# Altium footprint library LQFP64-10x10.PcbLib: 1 footprints
Each footprint in its own frame and in the unit in brackets; x right, y up, seen from the top. Pads: shape width x height; smd on the part's side, far side on the other; paste and mask are expansions set on the pad; w line width, h text height; cw(c..) or ccw(c..) is an arc to the next point about the centre after c.
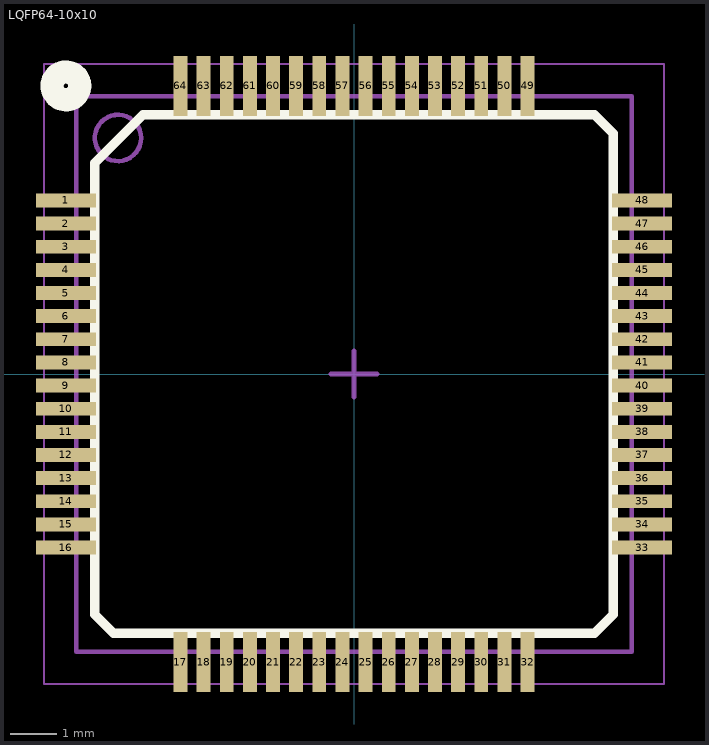
[diagram p0: the footprint, top view; thin cyan lines are the x and y axes]

## LQFP64-10x10 [mm]
pads (64):
  rect 1.3x0.3 smd: 1(-6.225,3.75) 2(-6.225,3.25) 3(-6.225,2.75) 4(-6.225,2.25) 5(-6.225,1.75) 6(-6.225,1.25) 7(-6.225,0.75) 8(-6.225,0.25) 9(-6.225,-0.25) 10(-6.225,-0.75) 11(-6.225,-1.25) 12(-6.225,-1.75) 13(-6.225,-2.25) 14(-6.225,-2.75) 15(-6.225,-3.25) 16(-6.225,-3.75) 33(6.225,-3.75) 34(6.225,-3.25) 35(6.225,-2.75) 36(6.225,-2.25) 37(6.225,-1.75) 38(6.225,-1.25) 39(6.225,-0.75) 40(6.225,-0.25) 41(6.225,0.25) 42(6.225,0.75) 43(6.225,1.25) 44(6.225,1.75) 45(6.225,2.25) 46(6.225,2.75) 47(6.225,3.25) 48(6.225,3.75)
  rect 0.3x1.3 smd: 17(-3.75,-6.225) 18(-3.25,-6.225) 19(-2.75,-6.225) 20(-2.25,-6.225) 21(-1.75,-6.225) 22(-1.25,-6.225) 23(-0.75,-6.225) 24(-0.25,-6.225) 25(0.25,-6.225) 26(0.75,-6.225) 27(1.25,-6.225) 28(1.75,-6.225) 29(2.25,-6.225) 30(2.75,-6.225) 31(3.25,-6.225) 32(3.75,-6.225) 49(3.75,6.225) 50(3.25,6.225) 51(2.75,6.225) 52(2.25,6.225) 53(1.75,6.225) 54(1.25,6.225) 55(0.75,6.225) 56(0.25,6.225) 57(-0.25,6.225) 58(-0.75,6.225) 59(-1.25,6.225) 60(-1.75,6.225) 61(-2.25,6.225) 62(-2.75,6.225) 63(-3.25,6.225) 64(-3.75,6.225)
Top Overlay:
  circle w0.5: c-6.225,6.225 r0.3
  lines w0.2: -5.6,-5.195 -5.6,4.56 -4.56,5.6 5.195,5.6 5.6,5.195 5.6,-5.195 5.195,-5.6 -5.195,-5.6 -5.6,-5.195
Mechanical 13:
  circle w0.1: c-5.1,5.1 r0.5
  lines w0.1: -6,-6 -6,6 6,6 6,-6 -6,-6
Mechanical 15:
  lines w0.05: -6.7,-6.7 -6.7,6.7 6.7,6.7 6.7,-6.7 -6.7,-6.7
  lines w0.1: -0.5,0 0.5,0 ; 0,-0.5 0,0.5
3D body: height 1.6, standoff 0.15, extent -6,-6 6,6